# EAGLE library part EFD15/15/15 (library inductor-Ferroxcube)
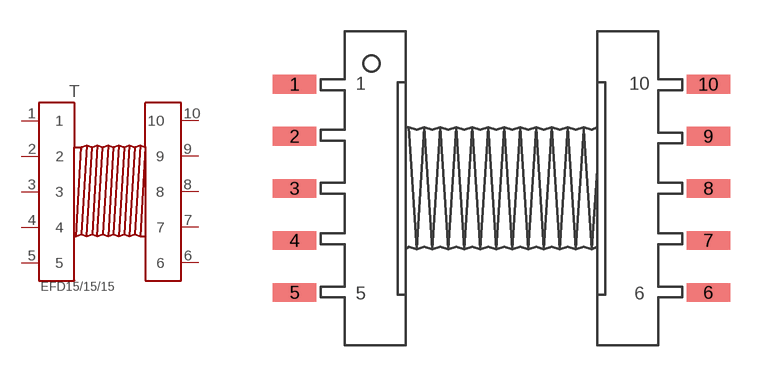
[diagram p2: symbol with the pads of EFD1515; footprint EFD1515]

Designator prefix T

## EFD15/15/15SMT  [EFD1515]
1  1  pas
2  2  pas
3  3  pas
4  4  pas
5  5  pas
6  6  pas
7  7  pas
8  8  pas
9  9
10  10

## Footprint EFD1515 (pad centres in mm)
smd 2.083 x 0.889: 1 -9.893,4.978; 2 -9.893,2.489; 3 -9.893,0; 4 -9.893,-2.489; 5 -9.893,-4.978; 6 9.893,-4.978; 7 9.893,-2.489; 8 9.893,0; 9 9.893,2.489; 10 9.893,4.978